# Altium footprint library PCB - POTENTIOMETER - BOURNS TRIMPOT 3361P.PCBLIB: 1 footprints
Each footprint in its own frame and in the unit in brackets; x right, y up, seen from the top. Pads: shape width x height; smd on the part's side, far side on the other; paste and mask are expansions set on the pad; w line width, h text height; cw(c..) or ccw(c..) is an arc to the next point about the centre after c.
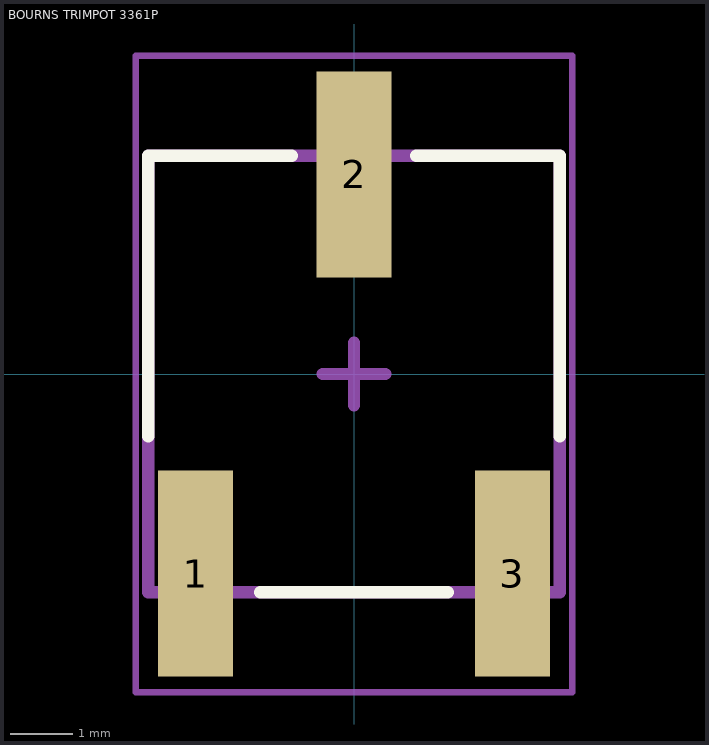
[diagram p0: the footprint, top view; thin cyan lines are the x and y axes]

## BOURNS TRIMPOT 3361P [mm] "3361 - 1/4 ˝ Square SMD Trimpot® Trimming Potentiometer"
height 5.21
pads (3):
  rect 1.2x3.3 smd: 1(-2.54,-3.2) 2(0,3.2) 3(2.54,-3.2)
Top Overlay:
  lines w0.2: -3.3,-1 -3.3,3.5 -1,3.5 ; -1.5,-3.5 1.5,-3.5 ; 1,3.5 3.3,3.5 3.3,-1
Top Assembly:
  lines w0.2: -0.5,0 0.5,0 ; 0,-0.5 0,0.5 ; -3.3,-3.5 -3.3,3.5 3.3,3.5 3.3,-3.5 -3.3,-3.5
Top Courtyard (Mech15):
  lines w0.1: -3.5,-5.1 3.5,-5.1 3.5,5.1 -3.5,5.1 -3.5,-5.1
3D body "Bourns - TrimPot 3361P.step": height 5.23, standoff 0, extent -3.353,-4.355 3.353,4.179